# EAGLE library part ZSPM4521 (library U-IDT-ZSPM4521-MPPT)
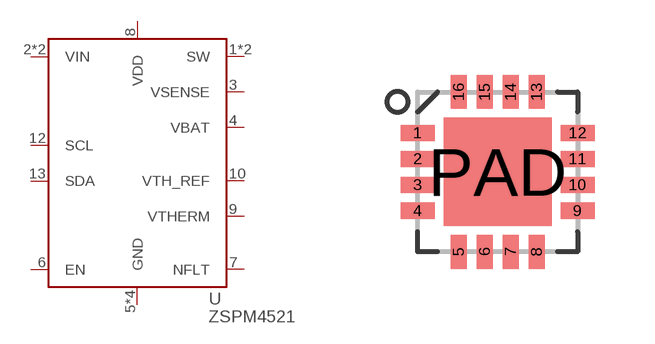
[diagram p0: symbol with the pads of QFN-16(4X4); footprint QFN-16(4X4)]

Designator prefix U

## ZSPM4521  [QFN-16(4X4)]
1  SW  pwr
2  VIN  pwr
3  VSENSE  in
4  VBAT  in
5  GND
6  EN  in
7  NFLT  oc
8  VDD  pwr
9  VTHERM  in
10  VTH_REF  in
11  VIN  pwr
12  SCL  in
13  SDA
14  SW  pwr
15  GND
16  GND
PAD  GND

## Footprint QFN-16(4X4) (pad centres in mm)
smd 0.85 x 0.4: 1 -2,0.975; 2 -2,0.325; 3 -2,-0.325; 4 -2,-0.975; 9 2,-0.975; 10 2,-0.325; 11 2,0.325; 12 2,0.975
smd 0.4 x 0.85: 5 -0.975,-2; 6 -0.325,-2; 7 0.325,-2; 8 0.975,-2; 13 0.975,2; 14 0.325,2; 15 -0.325,2; 16 -0.975,2
smd 2.7 x 2.7: PAD 0,0